# Altium schematic symbol library CAP.SchLib: 2 symbols
Pins are listed as number, name and electrical type; pins without a type are passive.

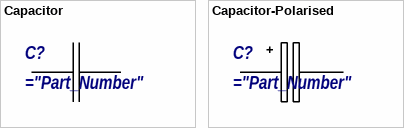
[diagram p0: symbols Capacitor to Capacitor-Polarised]

## Capacitor
designator C?
="Purchase"; Rule: UNIONINDEX=0|RULEKIND=SMDNeckDown|NETSCOPE=AnyNet|LAYERKIND=SameLayer|NAME=Schematic SMD Neck-Down Constraint|PERCENT=50.000|UNIT=Metric; Value: 1p
simulation model C_Capacitor_Default (Model Description)
signal-integrity model Model Name (Model Description)
pins: 1, 2

## Capacitor-Polarised
designator C?
="Purchase"; Rule: UNIONINDEX=0|RULEKIND=SMDNeckDown|NETSCOPE=AnyNet|LAYERKIND=SameLayer|NAME=Schematic SMD Neck-Down Constraint|PERCENT=50.000|UNIT=Metric; Value: 1p
simulation model C_Capacitor_Default (Model Description)
signal-integrity model Model Name (Model Description)
pins: 1, 2